# Altium integrated library Maxim Analog Filters.IntLib: 555 symbols (part 26 of 26)
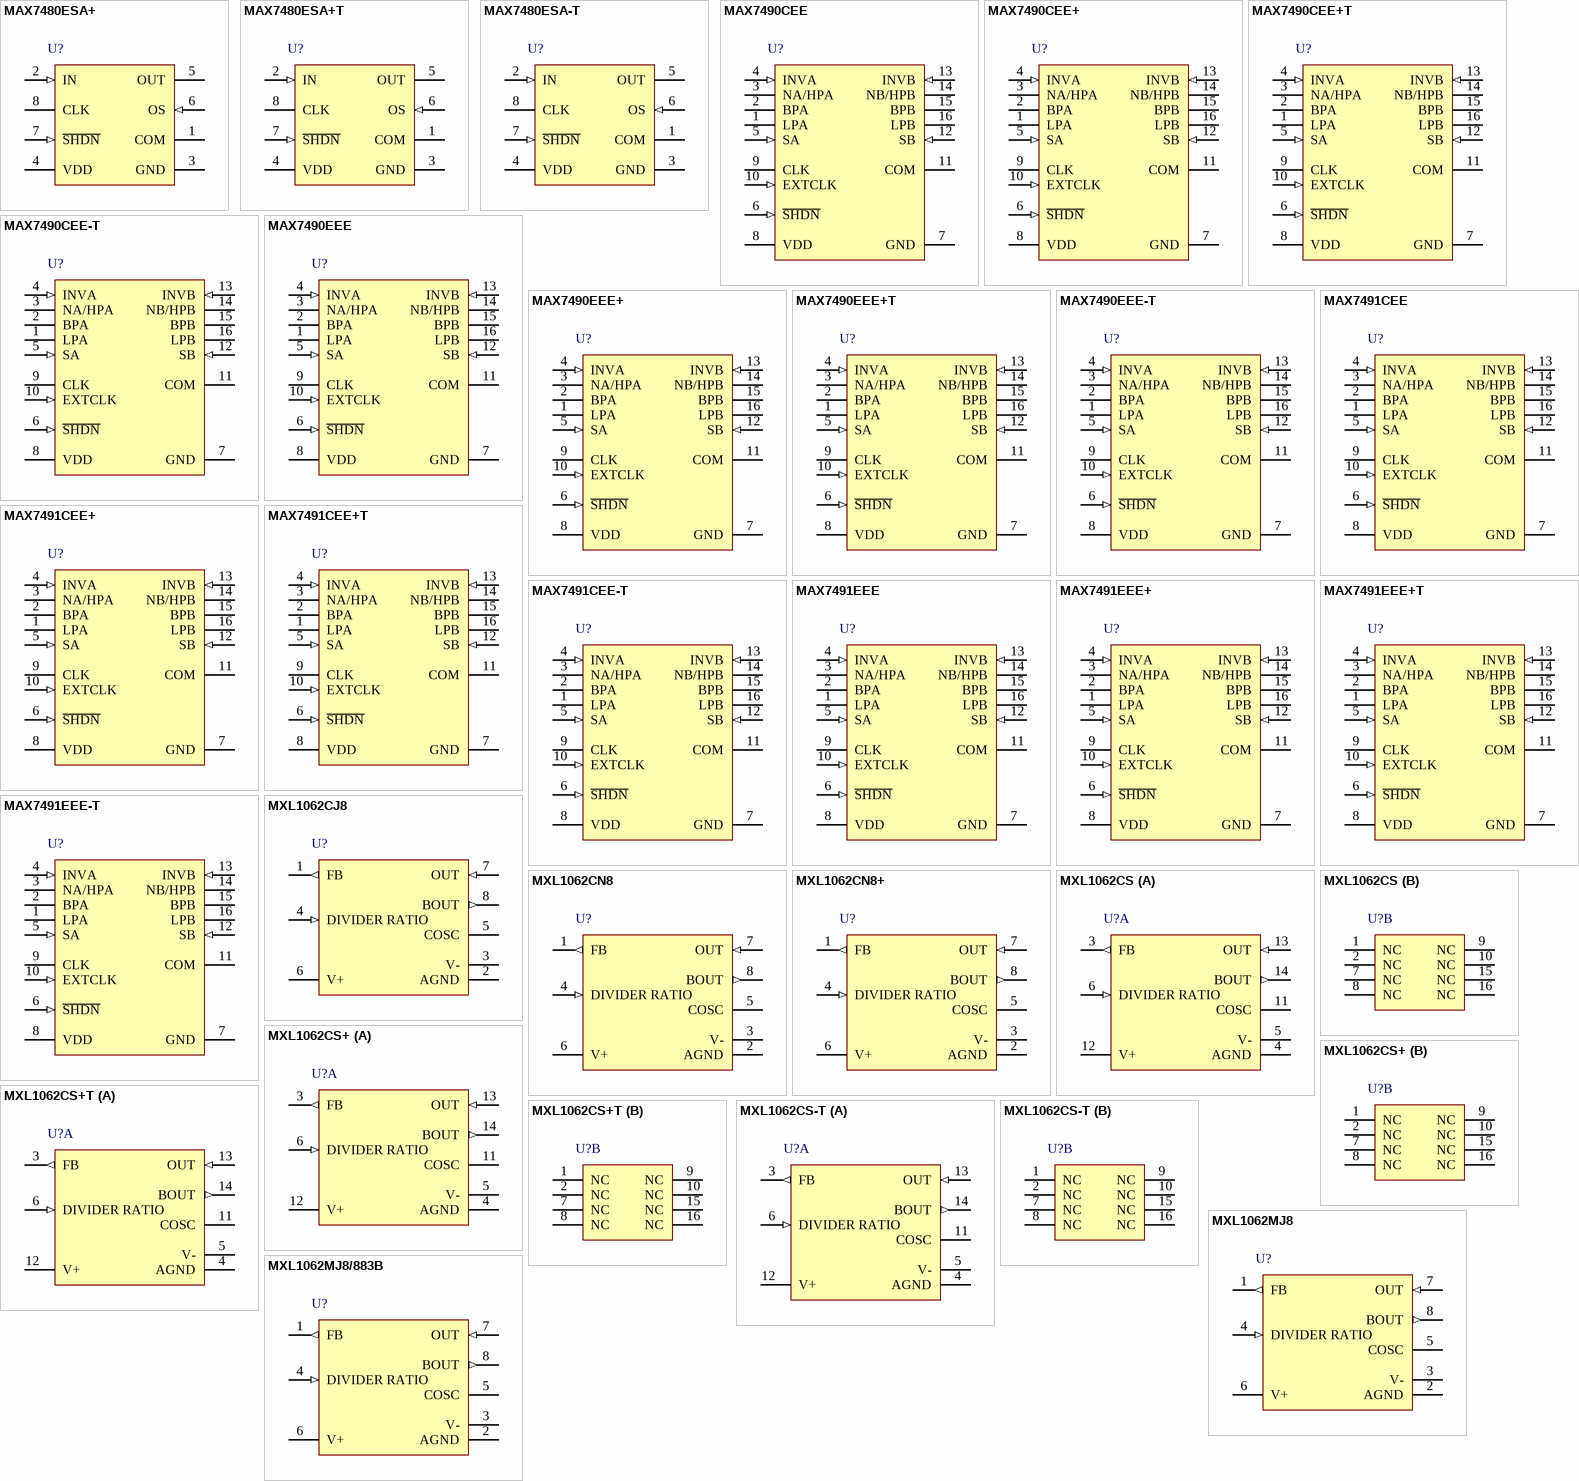
[diagram p42: symbols MAX7480ESA+ to MXL1062MJ8/883B]

## MAX7491EEE+
designator U?
Dual Switched Capacitor Filter, Clock Programmable, -40 to 85 degC, 16-Pin SOP (E16+4), Pb-Free; Generic Part Number: MAX7491; PartNumber: MAX7491EEE+; Filter Sections: 2; Filter Type: Universal; DatasheetVersion: Rev. 1; PackageVersion: Rev. K, 04/2012; PackageReference: E16+4; PackageDescription: 16-Pin Quarter Small-Outline Package, Body 4.90 x 3.89 mm, Pitch 0.635 mm; Supplier 1: Digi-Key; Supplier Part Number 1: MAX7491EEE+-ND; Supplier 2: Farnell; Supplier Part Number 2: 2072123; Supplier 3: Mouser; Supplier Part Number 3: 700-MAX7491EEE; Filter Characteristic: Programmable; Filter Class: Switched Cap; Order Per Filter Section: 2; Program Method: Clock; RoHS: Pb-Free; Mounting Technology: Surface Mount; Code_JEDEC: MO137; ComponentLink1Description: Manufacturer URL; ComponentLink1URL: http://www.maximintegrated.com/; ComponentLink2Description: Datasheet; ComponentLink2URL: http://datasheets.maximintegrated.com/en/ds/MAX7490-MAX7491.pdf; ComponentLink3Description: Package Specification; ComponentLink3URL: http://pdfserv.maximintegrated.com/package_dwgs/21-0055.PDF
footprint MAXM-E16+4_N (SOP, 16-Leads, Body 4.90x3.89mm, Pitch 0.635mm, IPC Medium Density)
footprint MAXM-E16+4_L (SOP, 16-Leads, Body 4.90x3.89mm, Pitch 0.635mm, IPC High Density)
footprint MAXM-E16+4_M (SOP, 16-Leads, Body 4.90x3.89mm, Pitch 0.635mm, IPC Low Density)
pins: 1 LPA (hiz) "2nd-Order Lowpass Filter Output", 2 BPA (hiz) "2nd-Order Bandpass Filter Output", 3 NA/HPA (hiz) "2nd-Order Notch/Highpass Filter Output", 4 INVA (in) "Inverting Input of Filter Summing Op Amp", 5 SA (in) "Summing Input. The connection of the summing input, along with the other resistor connections, determine the circuit topology (mode) of each 2ndorder section. SA must never be left unconnected.", 6 ~{SHDN} (in) "Shutdown Input. Drive S\H\D\N\ low to enable shutdown mode; drive S\H\D\N\ high or connect to VDD for normal operation.", 7 GND (power) "Ground Pin", 8 VDD (power) "Positive Supply. Bypass VDD with a 0.1µF capacitor to GND. A low-noise supply is recommended. Input +5V for MAX7490 or +3V for MAX7491.", 9 CLK "Clock Input. Connect CLK to an external capacitor (COSC) between CLK and ground to set the internal oscillator frequency. For external clock operation, drive CLK with a CMOS-level clock. The duty cycle of the external clock (See Datasheet)", 10 EXTCLK (in) "External/Internal Clock Select Input. Connect EXTCLK to VDD when driving CLK externally. Connect EXTCLK to GND when using the internal oscillator.", 11 COM "Common Pin. Biased internally at VDD/2. Bypass externally to GND with 0.1µF capacitor. To override the internal biasing, drive COM with an external low-impedance source.", 12 SB (in) "Summing Input. The connection of the summing input, along with the other resistor connections, determine the circuit topology (mode) of each 2ndorder section. SB must never be left unconnected.", 13 INVB (in) "Inverting Input of Filter Summing Op Amp", 14 NB/HPB (hiz) "2nd-Order Notch/Highpass Filter Output", 15 BPB (hiz) "2nd-Order Bandpass Filter Output", 16 LPB (hiz) "2nd-Order Lowpass Filter Output"

## MAX7491EEE+T
designator U?
Dual Switched Capacitor Filter, Clock Programmable, -40 to 85 degC, 16-Pin SOP (E16+4), Pb-Free, Tape and Reel; Generic Part Number: MAX7491; PartNumber: MAX7491EEE+T; Filter Sections: 2; Filter Type: Universal; DatasheetVersion: Rev. 1; PackageVersion: Rev. K, 04/2012; PackageReference: E16+4; PackageDescription: 16-Pin Quarter Small-Outline Package, Body 4.90 x 3.89 mm, Pitch 0.635 mm; Supplier 1: Digi-Key; Supplier Part Number 1: MAX7491EEE+T-ND; Supplier 2: Mouser; Supplier Part Number 2: 700-MAX7491EEET; Filter Characteristic: Programmable; Filter Class: Switched Cap; Order Per Filter Section: 2; Packing: Tape and Reel; Program Method: Clock; RoHS: Pb-Free; Mounting Technology: Surface Mount; Code_JEDEC: MO137; ComponentLink1Description: Manufacturer URL; ComponentLink1URL: http://www.maximintegrated.com/; ComponentLink2Description: Datasheet; ComponentLink2URL: http://datasheets.maximintegrated.com/en/ds/MAX7490-MAX7491.pdf; ComponentLink3Description: Package Specification; ComponentLink3URL: http://pdfserv.maximintegrated.com/package_dwgs/21-0055.PDF
footprint MAXM-E16+4_N (SOP, 16-Leads, Body 4.90x3.89mm, Pitch 0.635mm, IPC Medium Density)
footprint MAXM-E16+4_L (SOP, 16-Leads, Body 4.90x3.89mm, Pitch 0.635mm, IPC High Density)
footprint MAXM-E16+4_M (SOP, 16-Leads, Body 4.90x3.89mm, Pitch 0.635mm, IPC Low Density)
pins: 1 LPA (hiz) "2nd-Order Lowpass Filter Output", 2 BPA (hiz) "2nd-Order Bandpass Filter Output", 3 NA/HPA (hiz) "2nd-Order Notch/Highpass Filter Output", 4 INVA (in) "Inverting Input of Filter Summing Op Amp", 5 SA (in) "Summing Input. The connection of the summing input, along with the other resistor connections, determine the circuit topology (mode) of each 2ndorder section. SA must never be left unconnected.", 6 ~{SHDN} (in) "Shutdown Input. Drive S\H\D\N\ low to enable shutdown mode; drive S\H\D\N\ high or connect to VDD for normal operation.", 7 GND (power) "Ground Pin", 8 VDD (power) "Positive Supply. Bypass VDD with a 0.1µF capacitor to GND. A low-noise supply is recommended. Input +5V for MAX7490 or +3V for MAX7491.", 9 CLK "Clock Input. Connect CLK to an external capacitor (COSC) between CLK and ground to set the internal oscillator frequency. For external clock operation, drive CLK with a CMOS-level clock. The duty cycle of the external clock (See Datasheet)", 10 EXTCLK (in) "External/Internal Clock Select Input. Connect EXTCLK to VDD when driving CLK externally. Connect EXTCLK to GND when using the internal oscillator.", 11 COM "Common Pin. Biased internally at VDD/2. Bypass externally to GND with 0.1µF capacitor. To override the internal biasing, drive COM with an external low-impedance source.", 12 SB (in) "Summing Input. The connection of the summing input, along with the other resistor connections, determine the circuit topology (mode) of each 2ndorder section. SB must never be left unconnected.", 13 INVB (in) "Inverting Input of Filter Summing Op Amp", 14 NB/HPB (hiz) "2nd-Order Notch/Highpass Filter Output", 15 BPB (hiz) "2nd-Order Bandpass Filter Output", 16 LPB (hiz) "2nd-Order Lowpass Filter Output"

## MAX7491EEE-T
designator U?
Dual Switched Capacitor Filter, Clock Programmable, -40 to 85 degC, 16-Pin SOP (E16-4), Tape and Reel; Generic Part Number: MAX7491; PartNumber: MAX7491EEE-T; Filter Sections: 2; Filter Type: Universal; DatasheetVersion: Rev. 1; PackageVersion: Rev. K, 04/2012; PackageReference: E16-4; PackageDescription: 16-Pin Quarter Small-Outline Package, Body 4.90 x 3.89 mm, Pitch 0.635 mm; Supplier 1: Mouser; Supplier Part Number 1: N/A; Filter Characteristic: Programmable; Filter Class: Switched Cap; Order Per Filter Section: 2; Packing: Tape and Reel; Program Method: Clock; Mounting Technology: Surface Mount; Code_JEDEC: MO137; ComponentLink1Description: Manufacturer URL; ComponentLink1URL: http://www.maximintegrated.com/; ComponentLink2Description: Datasheet; ComponentLink2URL: http://datasheets.maximintegrated.com/en/ds/MAX7490-MAX7491.pdf; ComponentLink3Description: Package Specification; ComponentLink3URL: http://pdfserv.maximintegrated.com/package_dwgs/21-0055.PDF
footprint MAXM-E16-4_N (SOP, 16-Leads, Body 4.90x3.89mm, Pitch 0.635mm, IPC Medium Density)
footprint MAXM-E16-4_L (SOP, 16-Leads, Body 4.90x3.89mm, Pitch 0.635mm, IPC High Density)
footprint MAXM-E16-4_M (SOP, 16-Leads, Body 4.90x3.89mm, Pitch 0.635mm, IPC Low Density)
pins: 1 LPA (hiz) "2nd-Order Lowpass Filter Output", 2 BPA (hiz) "2nd-Order Bandpass Filter Output", 3 NA/HPA (hiz) "2nd-Order Notch/Highpass Filter Output", 4 INVA (in) "Inverting Input of Filter Summing Op Amp", 5 SA (in) "Summing Input. The connection of the summing input, along with the other resistor connections, determine the circuit topology (mode) of each 2ndorder section. SA must never be left unconnected.", 6 ~{SHDN} (in) "Shutdown Input. Drive S\H\D\N\ low to enable shutdown mode; drive S\H\D\N\ high or connect to VDD for normal operation.", 7 GND (power) "Ground Pin", 8 VDD (power) "Positive Supply. Bypass VDD with a 0.1µF capacitor to GND. A low-noise supply is recommended. Input +5V for MAX7490 or +3V for MAX7491.", 9 CLK "Clock Input. Connect CLK to an external capacitor (COSC) between CLK and ground to set the internal oscillator frequency. For external clock operation, drive CLK with a CMOS-level clock. The duty cycle of the external clock (See Datasheet)", 10 EXTCLK (in) "External/Internal Clock Select Input. Connect EXTCLK to VDD when driving CLK externally. Connect EXTCLK to GND when using the internal oscillator.", 11 COM "Common Pin. Biased internally at VDD/2. Bypass externally to GND with 0.1µF capacitor. To override the internal biasing, drive COM with an external low-impedance source.", 12 SB (in) "Summing Input. The connection of the summing input, along with the other resistor connections, determine the circuit topology (mode) of each 2ndorder section. SB must never be left unconnected.", 13 INVB (in) "Inverting Input of Filter Summing Op Amp", 14 NB/HPB (hiz) "2nd-Order Notch/Highpass Filter Output", 15 BPB (hiz) "2nd-Order Bandpass Filter Output", 16 LPB (hiz) "2nd-Order Lowpass Filter Output"

## MXL1062CJ8
designator U?
5th-Order Switched Capacitor Lowpass Filter, Butterworth, Zero-Error with Zero DC-Offset, -40 to 85 degC, 8-Pin DIP (J8-2); Generic Part Number: MXL1062; PartNumber: MXL1062CJ8; Filter Sections: 1; Industry Qualified: MIL-STD-883B; Order Per Filter Section: 5; Program Method: Clock; DatasheetVersion: Rev. 3; PackageVersion: Rev. B, 05/2011; PackageReference: J8-2; PackageDescription: 8-Pin Ceramic Dual-In-Line, Narrow (0.3in) (J8-2), Body 10.29 x 6.73 mm, Pitch 2.54 mm; Supplier 1: Mouser; Supplier Part Number 1: N/A; Filter Characteristic: Butterworth; Filter Class: Switched Cap; Filter Type: Lowpass; Mounting Technology: Through Hole; ComponentLink1Description: Manufacturer URL; ComponentLink1URL: http://www.maximintegrated.com/; ComponentLink2Description: Datasheet; ComponentLink2URL: http://datasheets.maximintegrated.com/en/ds/MAX280-MXL1062.pdf; ComponentLink3Description: Package Specification; ComponentLink3URL: http://pdfserv.maximintegrated.com/package_dwgs/21-0045.PDF
footprint MAXM-J8-2 (DIP, 8-Leads, Body 10.29x6.73mm, Pitch 2.54mm)
pins: 1 FB (out) "External capacitor couples to the chip through this pin.", 2 AGND (power) "Ground. Connect to system ground for dual supply operation or mid-supply for single operarion. This pin should be well bypassed using a large capacitor for single supply operation.", 3 V- (power) "Negative supply volatage", 4 DIVIDER RATIO (in) "The oscillator frequency is divided by either 1, 2 or 4 depending upon the voltage on this pin. This in turn gives a clock to cutoff frequency ratio when tied to V+ of 100:1; when tied to GND of 200:1; and when tied to V- of (See Datasheet)", 5 COSC "Clock input pin for external clock applications.For internal clock operation connect an external capacitor between this pin and V-.", 6 V+ (power) "Positive supply volatage", 7 OUT (in) "Input to on-chip buffer amplifer", 8 BOUT (out) "Output of buffer amplifier"

## MXL1062CN8
designator U?
5th-Order Switched Capacitor Lowpass Filter, Butterworth, Zero-Error with Zero DC-Offset, -40 to 85 degC, 8-Pin DIP (P8-3); Generic Part Number: MXL1062; PartNumber: MXL1062CN8; Filter Sections: 1; Industry Qualified: MIL-STD-883B; Order Per Filter Section: 5; Program Method: Clock; DatasheetVersion: Rev. 3; PackageVersion: Rev. E, 04/2011; PackageReference: P8-3; PackageDescription: 8-Pin Plastic Dual-In-Line, Narrow (0.3in) (P8-3), Body 9.375 x 6.985 mm, Pitch 2.54 mm; Supplier 1: Mouser; Supplier Part Number 1: N/A; Filter Characteristic: Butterworth; Filter Class: Switched Cap; Filter Type: Lowpass; Mounting Technology: Through Hole; Code_JEDEC: MO-058AB; ComponentLink1Description: Manufacturer URL; ComponentLink1URL: http://www.maximintegrated.com/; ComponentLink2Description: Datasheet; ComponentLink2URL: http://datasheets.maximintegrated.com/en/ds/MAX280-MXL1062.pdf; ComponentLink3Description: Package Specification; ComponentLink3URL: http://pdfserv.maximintegrated.com/package_dwgs/21-0043.PDF
footprint MAXM-P8-3 (DIP, 8-Leads, Body 9.375x6.985mm, Pitch 2.54mm)
pins: 1 FB (out) "External capacitor couples to the chip through this pin.", 2 AGND (power) "Ground. Connect to system ground for dual supply operation or mid-supply for single operarion. This pin should be well bypassed using a large capacitor for single supply operation.", 3 V- (power) "Negative supply volatage", 4 DIVIDER RATIO (in) "The oscillator frequency is divided by either 1, 2 or 4 depending upon the voltage on this pin. This in turn gives a clock to cutoff frequency ratio when tied to V+ of 100:1; when tied to GND of 200:1; and when tied to V- of (See Datasheet)", 5 COSC "Clock input pin for external clock applications.For internal clock operation connect an external capacitor between this pin and V-.", 6 V+ (power) "Positive supply volatage", 7 OUT (in) "Input to on-chip buffer amplifer", 8 BOUT (out) "Output of buffer amplifier"

## MXL1062CN8+
designator U?
5th-Order Switched Capacitor Lowpass Filter, Butterworth, Zero-Error with Zero DC-Offset, -40 to 85 degC, 8-Pin DIP (P8+3), Pb-Free; Generic Part Number: MXL1062; PartNumber: MXL1062CN8+; Filter Sections: 1; Industry Qualified: MIL-STD-883B; Order Per Filter Section: 5; Program Method: Clock; DatasheetVersion: Rev. 3; PackageVersion: Rev. E, 04/2011; PackageReference: P8+3; PackageDescription: 8-Pin Plastic Dual-In-Line, Narrow (0.3in) (P8+3), Body 9.375 x 6.985 mm, Pitch 2.54 mm; Supplier 1: Digi-Key; Supplier Part Number 1: MXL1062CN8+-ND; Supplier 2: Mouser; Supplier Part Number 2: 700-MXL1062CN8; Filter Characteristic: Butterworth; Filter Class: Switched Cap; Filter Type: Lowpass; RoHS: Pb-Free; Mounting Technology: Through Hole; Code_JEDEC: MO-058AB; ComponentLink1Description: Manufacturer URL; ComponentLink1URL: http://www.maximintegrated.com/; ComponentLink2Description: Datasheet; ComponentLink2URL: http://datasheets.maximintegrated.com/en/ds/MAX280-MXL1062.pdf; ComponentLink3Description: Package Specification; ComponentLink3URL: http://pdfserv.maximintegrated.com/package_dwgs/21-0043.PDF
footprint MAXM-P8+3 (DIP, 8-Leads, Body 9.375x6.985mm, Pitch 2.54mm)
pins: 1 FB (out) "External capacitor couples to the chip through this pin.", 2 AGND (power) "Ground. Connect to system ground for dual supply operation or mid-supply for single operarion. This pin should be well bypassed using a large capacitor for single supply operation.", 3 V- (power) "Negative supply volatage", 4 DIVIDER RATIO (in) "The oscillator frequency is divided by either 1, 2 or 4 depending upon the voltage on this pin. This in turn gives a clock to cutoff frequency ratio when tied to V+ of 100:1; when tied to GND of 200:1; and when tied to V- of (See Datasheet)", 5 COSC "Clock input pin for external clock applications.For internal clock operation connect an external capacitor between this pin and V-.", 6 V+ (power) "Positive supply volatage", 7 OUT (in) "Input to on-chip buffer amplifer", 8 BOUT (out) "Output of buffer amplifier"

## MXL1062CS
designator U?
5th-Order Switched Capacitor Lowpass Filter, Butterworth, Zero-Error with Zero DC-Offset, -40 to 85 degC, 16-Pin SOIC (W16-2); Generic Part Number: MXL1062; PartNumber: MXL1062CS; Filter Sections: 1; Industry Qualified: MIL-STD-883B; Order Per Filter Section: 5; Program Method: Clock; DatasheetVersion: Rev. 3; PackageVersion: Rev. F, 10/2012; PackageReference: W16-2; PackageDescription: 16-Pin Small-Outline IC, Wide (0.3in) (W16-2), Body 10.3 x 7.5 mm, Pitch 1.27 mm; Supplier 1: Mouser; Supplier Part Number 1: N/A; Filter Characteristic: Butterworth; Filter Class: Switched Cap; Filter Type: Lowpass; Mounting Technology: Surface Mount; Code_JEDEC: MS013; ComponentLink1Description: Manufacturer URL; ComponentLink1URL: http://www.maximintegrated.com/; ComponentLink2Description: Datasheet; ComponentLink2URL: http://datasheets.maximintegrated.com/en/ds/MAX280-MXL1062.pdf; ComponentLink3Description: Package Specification; ComponentLink3URL: http://pdfserv.maximintegrated.com/package_dwgs/21-0042.PDF
footprint MAXM-W16-2_N (SOIC, 16-Leads, Body 10.3x7.5mm, Pitch 1.27mm, IPC Medium Density)
footprint MAXM-W16-2_L (SOIC, 16-Leads, Body 10.3x7.5mm, Pitch 1.27mm, IPC High Density)
footprint MAXM-W16-2_M (SOIC, 16-Leads, Body 10.3x7.5mm, Pitch 1.27mm, IPC Low Density)
part A pins: 3 FB (out) "External capacitor couples to the chip through this pin.", 4 AGND (power) "Ground. Connect to system ground for dual supply operation or mid-supply for single operarion. This pin should be well bypassed using a large capacitor for single supply operation.", 5 V- (power) "Negative supply volatage", 6 DIVIDER RATIO (in) "The oscillator frequency is divided by either 1, 2 or 4 depending upon the voltage on this pin. This in turn gives a clock to cutoff frequency ratio when tied to V+ of 100:1; when tied to GND of 200:1; and when tied to V- of (See Datasheet)", 11 COSC "Clock input pin for external clock applications.For internal clock operation connect an external capacitor between this pin and V-.", 12 V+ (power) "Positive supply volatage", 13 OUT (in) "Input to on-chip buffer amplifer", 14 BOUT (out) "Output of buffer amplifier"
part B pins: 1 NC, 2 NC, 7 NC, 8 NC, 9 NC, 10 NC, 15 NC, 16 NC

## MXL1062CS+
designator U?
5th-Order Switched Capacitor Lowpass Filter, Butterworth, Zero-Error with Zero DC-Offset, -40 to 85 degC, 16-Pin SOIC (W16+2), Pb-Free; Generic Part Number: MXL1062; PartNumber: MXL1062CS+; Filter Sections: 1; Industry Qualified: MIL-STD-883B; Order Per Filter Section: 5; Program Method: Clock; DatasheetVersion: Rev. 3; PackageVersion: Rev. F, 10/2012; PackageReference: W16+2; PackageDescription: 16-Pin Small-Outline IC, Wide (0.3in) (W16+2), Body 10.3 x 7.5 mm, Pitch 1.27 mm; Supplier 1: Digi-Key; Supplier Part Number 1: MXL1062CS+-ND; Supplier 2: Mouser; Supplier Part Number 2: 700-MXL1062CS; Filter Characteristic: Butterworth; Filter Class: Switched Cap; Filter Type: Lowpass; RoHS: Pb-Free; Mounting Technology: Surface Mount; Code_JEDEC: MS013; ComponentLink1Description: Manufacturer URL; ComponentLink1URL: http://www.maximintegrated.com/; ComponentLink2Description: Datasheet; ComponentLink2URL: http://datasheets.maximintegrated.com/en/ds/MAX280-MXL1062.pdf; ComponentLink3Description: Package Specification; ComponentLink3URL: http://pdfserv.maximintegrated.com/package_dwgs/21-0042.PDF
footprint MAXM-W16+2_N (SOIC, 16-Leads, Body 10.3x7.5mm, Pitch 1.27mm, IPC Medium Density)
footprint MAXM-W16+2_L (SOIC, 16-Leads, Body 10.3x7.5mm, Pitch 1.27mm, IPC High Density)
footprint MAXM-W16+2_M (SOIC, 16-Leads, Body 10.3x7.5mm, Pitch 1.27mm, IPC Low Density)
part A pins: 3 FB (out) "External capacitor couples to the chip through this pin.", 4 AGND (power) "Ground. Connect to system ground for dual supply operation or mid-supply for single operarion. This pin should be well bypassed using a large capacitor for single supply operation.", 5 V- (power) "Negative supply volatage", 6 DIVIDER RATIO (in) "The oscillator frequency is divided by either 1, 2 or 4 depending upon the voltage on this pin. This in turn gives a clock to cutoff frequency ratio when tied to V+ of 100:1; when tied to GND of 200:1; and when tied to V- of (See Datasheet)", 11 COSC "Clock input pin for external clock applications.For internal clock operation connect an external capacitor between this pin and V-.", 12 V+ (power) "Positive supply volatage", 13 OUT (in) "Input to on-chip buffer amplifer", 14 BOUT (out) "Output of buffer amplifier"
part B pins: 1 NC, 2 NC, 7 NC, 8 NC, 9 NC, 10 NC, 15 NC, 16 NC

## MXL1062CS+T
designator U?
5th-Order Switched Capacitor Lowpass Filter, Butterworth, Zero-Error with Zero DC-Offset, -40 to 85 degC, 16-Pin SOIC (W16+2), Pb-Free, Tape and Reel; Generic Part Number: MXL1062; PartNumber: MXL1062CS+T; Filter Sections: 1; Industry Qualified: MIL-STD-883B; Order Per Filter Section: 5; Program Method: Clock; DatasheetVersion: Rev. 3; PackageVersion: Rev. F, 10/2012; PackageReference: W16+2; PackageDescription: 16-Pin Small-Outline IC, Wide (0.3in) (W16+2), Body 10.3 x 7.5 mm, Pitch 1.27 mm; Supplier 1: Digi-Key; Supplier Part Number 1: MXL1062CS+T-ND; Supplier 2: Mouser; Supplier Part Number 2: 700-MXL1062CST; Filter Characteristic: Butterworth; Filter Class: Switched Cap; Filter Type: Lowpass; Packing: Tape and Reel; RoHS: Pb-Free; Mounting Technology: Surface Mount; Code_JEDEC: MS013; ComponentLink1Description: Manufacturer URL; ComponentLink1URL: http://www.maximintegrated.com/; ComponentLink2Description: Datasheet; ComponentLink2URL: http://datasheets.maximintegrated.com/en/ds/MAX280-MXL1062.pdf; ComponentLink3Description: Package Specification; ComponentLink3URL: http://pdfserv.maximintegrated.com/package_dwgs/21-0042.PDF
footprint MAXM-W16+2_N (SOIC, 16-Leads, Body 10.3x7.5mm, Pitch 1.27mm, IPC Medium Density)
footprint MAXM-W16+2_L (SOIC, 16-Leads, Body 10.3x7.5mm, Pitch 1.27mm, IPC High Density)
footprint MAXM-W16+2_M (SOIC, 16-Leads, Body 10.3x7.5mm, Pitch 1.27mm, IPC Low Density)
part A pins: 3 FB (out) "External capacitor couples to the chip through this pin.", 4 AGND (power) "Ground. Connect to system ground for dual supply operation or mid-supply for single operarion. This pin should be well bypassed using a large capacitor for single supply operation.", 5 V- (power) "Negative supply volatage", 6 DIVIDER RATIO (in) "The oscillator frequency is divided by either 1, 2 or 4 depending upon the voltage on this pin. This in turn gives a clock to cutoff frequency ratio when tied to V+ of 100:1; when tied to GND of 200:1; and when tied to V- of (See Datasheet)", 11 COSC "Clock input pin for external clock applications.For internal clock operation connect an external capacitor between this pin and V-.", 12 V+ (power) "Positive supply volatage", 13 OUT (in) "Input to on-chip buffer amplifer", 14 BOUT (out) "Output of buffer amplifier"
part B pins: 1 NC, 2 NC, 7 NC, 8 NC, 9 NC, 10 NC, 15 NC, 16 NC

## MXL1062CS-T
designator U?
5th-Order Switched Capacitor Lowpass Filter, Butterworth, Zero-Error with Zero DC-Offset, -40 to 85 degC, 16-Pin SOIC (W16-2), Tape and Reel; Generic Part Number: MXL1062; PartNumber: MXL1062CS-T; Filter Sections: 1; Industry Qualified: MIL-STD-883B; Order Per Filter Section: 5; Program Method: Clock; DatasheetVersion: Rev. 3; PackageVersion: Rev. F, 10/2012; PackageReference: W16-2; PackageDescription: 16-Pin Small-Outline IC, Wide (0.3in) (W16-2), Body 10.3 x 7.5 mm, Pitch 1.27 mm; Supplier 1: Mouser; Supplier Part Number 1: N/A; Filter Characteristic: Butterworth; Filter Class: Switched Cap; Filter Type: Lowpass; Packing: Tape and Reel; Mounting Technology: Surface Mount; Code_JEDEC: MS013; ComponentLink1Description: Manufacturer URL; ComponentLink1URL: http://www.maximintegrated.com/; ComponentLink2Description: Datasheet; ComponentLink2URL: http://datasheets.maximintegrated.com/en/ds/MAX280-MXL1062.pdf; ComponentLink3Description: Package Specification; ComponentLink3URL: http://pdfserv.maximintegrated.com/package_dwgs/21-0042.PDF
footprint MAXM-W16-2_N (SOIC, 16-Leads, Body 10.3x7.5mm, Pitch 1.27mm, IPC Medium Density)
footprint MAXM-W16-2_L (SOIC, 16-Leads, Body 10.3x7.5mm, Pitch 1.27mm, IPC High Density)
footprint MAXM-W16-2_M (SOIC, 16-Leads, Body 10.3x7.5mm, Pitch 1.27mm, IPC Low Density)
part A pins: 3 FB (out) "External capacitor couples to the chip through this pin.", 4 AGND (power) "Ground. Connect to system ground for dual supply operation or mid-supply for single operarion. This pin should be well bypassed using a large capacitor for single supply operation.", 5 V- (power) "Negative supply volatage", 6 DIVIDER RATIO (in) "The oscillator frequency is divided by either 1, 2 or 4 depending upon the voltage on this pin. This in turn gives a clock to cutoff frequency ratio when tied to V+ of 100:1; when tied to GND of 200:1; and when tied to V- of (See Datasheet)", 11 COSC "Clock input pin for external clock applications.For internal clock operation connect an external capacitor between this pin and V-.", 12 V+ (power) "Positive supply volatage", 13 OUT (in) "Input to on-chip buffer amplifer", 14 BOUT (out) "Output of buffer amplifier"
part B pins: 1 NC, 2 NC, 7 NC, 8 NC, 9 NC, 10 NC, 15 NC, 16 NC

## MXL1062MJ8
designator U?
5th-Order Switched Capacitor Lowpass Filter, Butterworth, Zero-Error with Zero DC-Offset, -55 to 125 degC, 8-Pin DIP (J8-2); Generic Part Number: MXL1062; PartNumber: MXL1062MJ8; Filter Sections: 1; Industry Qualified: MIL-STD-883B; Order Per Filter Section: 5; Program Method: Clock; DatasheetVersion: Rev. 3; PackageVersion: Rev. B, 05/2011; PackageReference: J8-2; PackageDescription: 8-Pin Ceramic Dual-In-Line, Narrow (0.3in) (J8-2), Body 10.29 x 6.73 mm, Pitch 2.54 mm; Supplier 1: Mouser; Supplier Part Number 1: N/A; Filter Characteristic: Butterworth; Filter Class: Switched Cap; Filter Type: Lowpass; Mounting Technology: Through Hole; ComponentLink1Description: Manufacturer URL; ComponentLink1URL: http://www.maximintegrated.com/; ComponentLink2Description: Datasheet; ComponentLink2URL: http://datasheets.maximintegrated.com/en/ds/MAX280-MXL1062.pdf; ComponentLink3Description: Package Specification; ComponentLink3URL: http://pdfserv.maximintegrated.com/package_dwgs/21-0045.PDF
footprint MAXM-J8-2 (DIP, 8-Leads, Body 10.29x6.73mm, Pitch 2.54mm)
pins: 1 FB (out) "External capacitor couples to the chip through this pin.", 2 AGND (power) "Ground. Connect to system ground for dual supply operation or mid-supply for single operarion. This pin should be well bypassed using a large capacitor for single supply operation.", 3 V- (power) "Negative supply volatage", 4 DIVIDER RATIO (in) "The oscillator frequency is divided by either 1, 2 or 4 depending upon the voltage on this pin. This in turn gives a clock to cutoff frequency ratio when tied to V+ of 100:1; when tied to GND of 200:1; and when tied to V- of (See Datasheet)", 5 COSC "Clock input pin for external clock applications.For internal clock operation connect an external capacitor between this pin and V-.", 6 V+ (power) "Positive supply volatage", 7 OUT (in) "Input to on-chip buffer amplifer", 8 BOUT (out) "Output of buffer amplifier"

## MXL1062MJ8/883B
designator U?
5th-Order Switched Capacitor Lowpass Filter, Butterworth, Zero-Error with Zero DC-Offset, -55 to 125 degC, 8-Pin DIP (J8-2); Generic Part Number: MXL1062; PartNumber: MXL1062MJ8/883B; Filter Sections: 1; Industry Qualified: MIL-STD-883B; Order Per Filter Section: 5; Program Method: Clock; DatasheetVersion: Rev. 3; PackageVersion: Rev. B, 05/2011; PackageReference: J8-2; PackageDescription: 8-Pin Ceramic Dual-In-Line, Narrow (0.3in) (J8-2), Body 10.29 x 6.73 mm, Pitch 2.54 mm; Supplier 1: Mouser; Supplier Part Number 1: N/A; Filter Characteristic: Butterworth; Filter Class: Switched Cap; Filter Type: Lowpass; Mounting Technology: Through Hole; ComponentLink1Description: Manufacturer URL; ComponentLink1URL: http://www.maximintegrated.com/; ComponentLink2Description: Datasheet; ComponentLink2URL: http://datasheets.maximintegrated.com/en/ds/MAX280-MXL1062.pdf; ComponentLink3Description: Package Specification; ComponentLink3URL: http://pdfserv.maximintegrated.com/package_dwgs/21-0045.PDF
footprint MAXM-J8-2 (DIP, 8-Leads, Body 10.29x6.73mm, Pitch 2.54mm)
pins: 1 FB (out) "External capacitor couples to the chip through this pin.", 2 AGND (power) "Ground. Connect to system ground for dual supply operation or mid-supply for single operarion. This pin should be well bypassed using a large capacitor for single supply operation.", 3 V- (power) "Negative supply volatage", 4 DIVIDER RATIO (in) "The oscillator frequency is divided by either 1, 2 or 4 depending upon the voltage on this pin. This in turn gives a clock to cutoff frequency ratio when tied to V+ of 100:1; when tied to GND of 200:1; and when tied to V- of (See Datasheet)", 5 COSC "Clock input pin for external clock applications.For internal clock operation connect an external capacitor between this pin and V-.", 6 V+ (power) "Positive supply volatage", 7 OUT (in) "Input to on-chip buffer amplifer", 8 BOUT (out) "Output of buffer amplifier"